# Altium schematic symbol library Schlib1.SchLib: 5 symbols
Pins are listed as number, name and electrical type; pins without a type are passive.

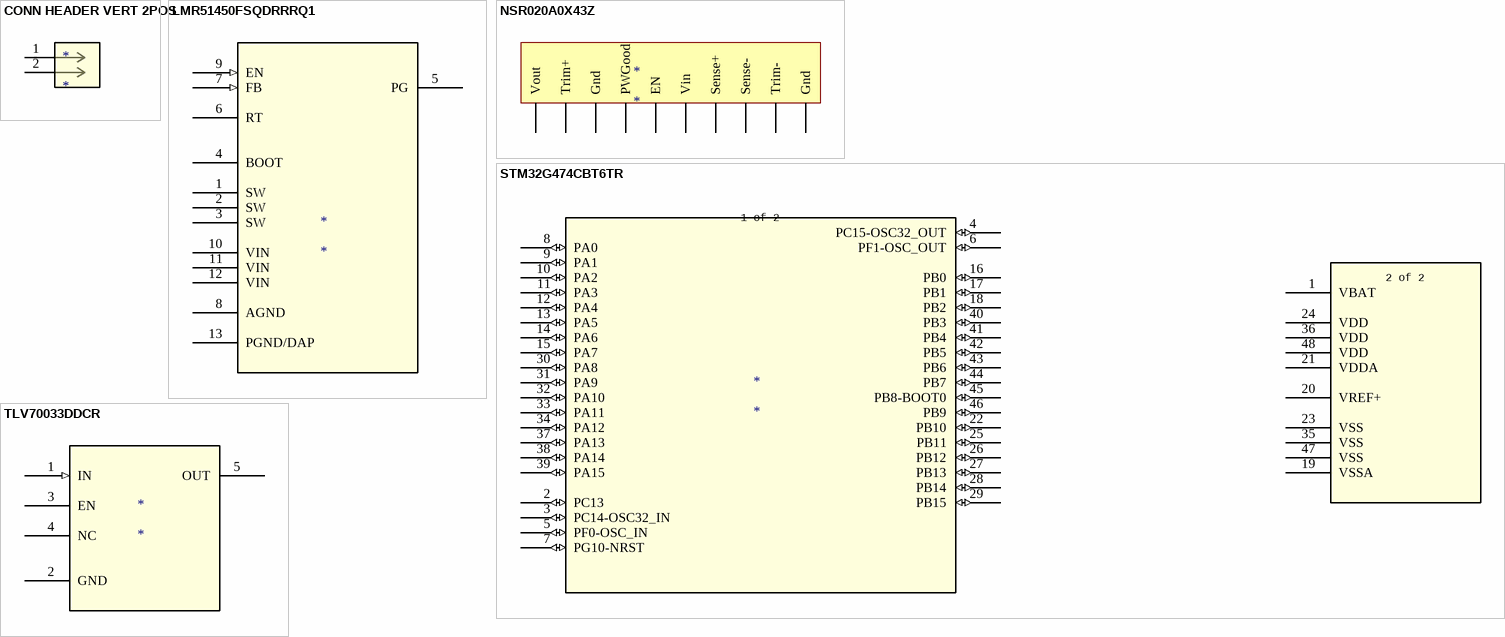
[diagram p0: symbols CONN HEADER VERT 2POS to TLV70033DDCR]

## CONN HEADER VERT 2POS
designator *
footprint CONN HEADER VERT 2POS
pins: 1, 2

## LMR51450FSQDRRRQ1
designator *
footprint LMR51450FSQDRRRQ1
pins: 1 SW (power), 2 SW (power), 3 SW (power), 4 BOOT (power), 5 PG, 6 RT, 7 FB (in), 8 AGND (power), 9 EN (in), 10 VIN (power), 11 VIN (power), 12 VIN (power), 13 PGND/DAP (power)

## NSR020A0X43Z
designator *
footprint NSR020A0X43Z
pins: 1 Vout, 2 Trim+, 3 Gnd, 4 PWGood, 5 EN, 6 Vin, 7 Sense+, 8 Sense-, 9 Trim-, 10 Gnd

## STM32G474CBT6TR
designator *
footprint STM32G474CBT6TR
pins: 1 VBAT (power), 2 PC13 (io), 3 PC14-OSC32_IN (io), 4 PC15-OSC32_OUT (io), 5 PF0-OSC_IN (io), 6 PF1-OSC_OUT (io), 7 PG10-NRST (io), 8 PA0 (io), 9 PA1 (io), 10 PA2 (io), 11 PA3 (io), 12 PA4 (io), 13 PA5 (io), 14 PA6 (io), 15 PA7 (io), 16 PB0 (io), 17 PB1 (io), 18 PB2 (io), 19 VSSA (power), 20 VREF+ (power), 21 VDDA (power), 22 PB10 (io), 23 VSS (power), 24 VDD (power), 25 PB11 (io), 26 PB12 (io), 27 PB13 (io), 28 PB14 (io), 29 PB15 (io), 30 PA8 (io), 31 PA9 (io), 32 PA10 (io), 33 PA11 (io), 34 PA12 (io), 35 VSS (power), 36 VDD (power), 37 PA13 (io), 38 PA14 (io), 39 PA15 (io), 40 PB3 (io), 41 PB4 (io), 42 PB5 (io), 43 PB6 (io), 44 PB7 (io), 45 PB8-BOOT0 (io), 46 PB9 (io), 47 VSS (power), 48 VDD (power)
text: 1 of 2; 2 of 2

## TLV70033DDCR
designator *
footprint TLV70033DDCR
pins: 1 IN (in), 2 GND (power), 3 EN, 4 NC, 5 OUT (power)